# Altium footprint library BORNERA10_5mm_TORNILLO.PcbLib: 1 footprints
Each footprint in its own frame and in the unit in brackets; x right, y up, seen from the top. Pads: shape width x height; smd on the part's side, far side on the other; paste and mask are expansions set on the pad; w line width, h text height; cw(c..) or ccw(c..) is an arc to the next point about the centre after c.
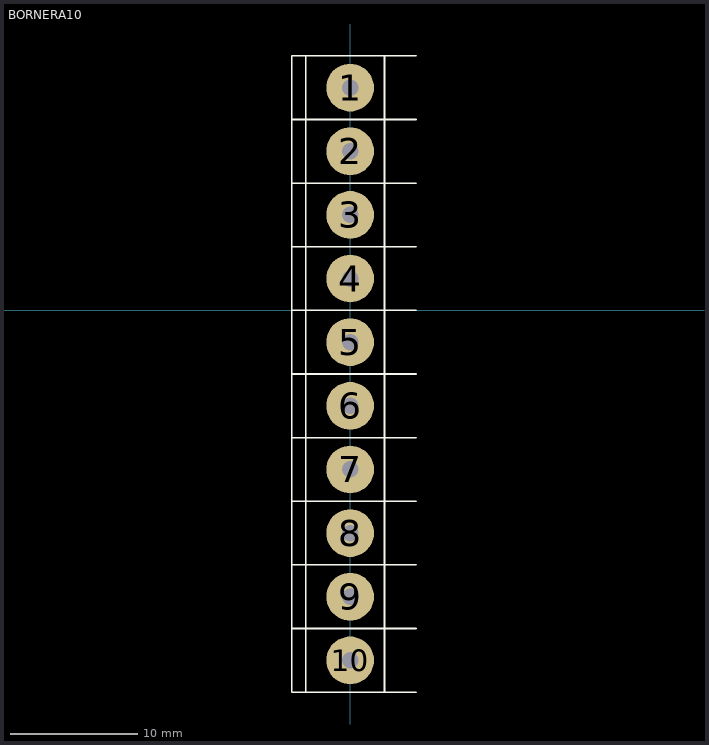
[diagram p0: the footprint, top view; thin cyan lines are the x and y axes]

## BORNERA10 [mm] "Bornera con Tornillos 5mm separación"
pads (10):
  round 3.75 hole 1.3: 1(0,17.5) 2(0,12.5) 3(0,7.5) 4(0,2.5) 5(0,-2.5) 6(0,-7.5) 7(0,-12.5) 8(0,-17.5) 9(0,-22.5) 10(0,-27.5)
Top Overlay:
  lines w0.127: -4.6,-25 5.2,-25 ; -4.6,-20 5.2,-20 ; -4.6,-15 5.2,-15 ; -4.6,-10 5.2,-10 ; -4.6,-5 5.2,-5 ; -4.6,0 5.2,0 ; -4.6,5 5.2,5 ; -4.6,10 5.2,10 ; -4.6,15 5.2,15 ; -3.5,-30 -3.5,20 ; 2.7,-30 2.7,20 ; 5.2,-30 -4.6,-30 -4.6,20 5.2,20
3D body: height 10, standoff -2.28, extent -3.763,0.108 3.937,10.607
3D body: height 10, standoff -2.28, extent -3.763,10.108 3.937,20.608
3D body: height 10, standoff -2.28, extent -3.763,-9.892 3.937,0.607
3D body: height 10, standoff -2.28, extent -3.763,-19.893 3.937,-9.393
3D body: height 10, standoff -2.28, extent -3.763,-29.893 3.937,-19.393